# EAGLE library part G5V-1_5DC (library graftel-internal-ic)
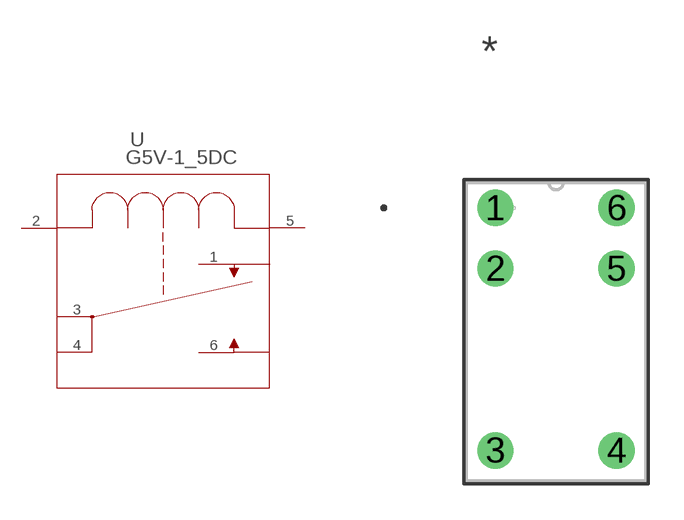
[diagram p68: symbol with the pads of RELAY_G5V-1; footprint RELAY_G5V-1]

Designator prefix U

## G5V-1_5DC (MANUFACTURER_PART_NUMBER: G5V1 5DC; VENDOR: OMRON)  [RELAY_G5V-1]
1  5  pas
2  1  pas
3  2  pas
4  3  pas
5  6  pas
6  4  pas

## Footprint RELAY_G5V-1 (pad centres in mm)
drill 1.016 pad 1.524: 1 -5.08,10.363; 2 -5.08,7.823; 3 -5.08,0.203; 4 0,0.203; 5 0,7.823; 6 0,10.363